# Altium integrated library TB009-508-02BE_TERMINAL.IntLib: 1 symbol
Pins are listed as number, name and electrical type; pins without a type are passive.

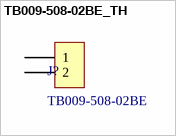
[diagram p0: symbol TB009-508-02BE_TH]

## TB009-508-02BE_TH
designator J?, comment TB009-508-02BE
2 Position Wire to Board Terminal Horizontal 5.08mm; Value: *; MP: TB009-508-02BE; Supplier 1: Digi-Key; Supplier Part Number 1: 102-6227-ND
footprint 2 way Terminal 5.08mm
pins: 1, 2